# Altium schematic symbol library kmilo17pet-Maxim_Sensors.SchLib: 1172 symbols (part 47 of 61)
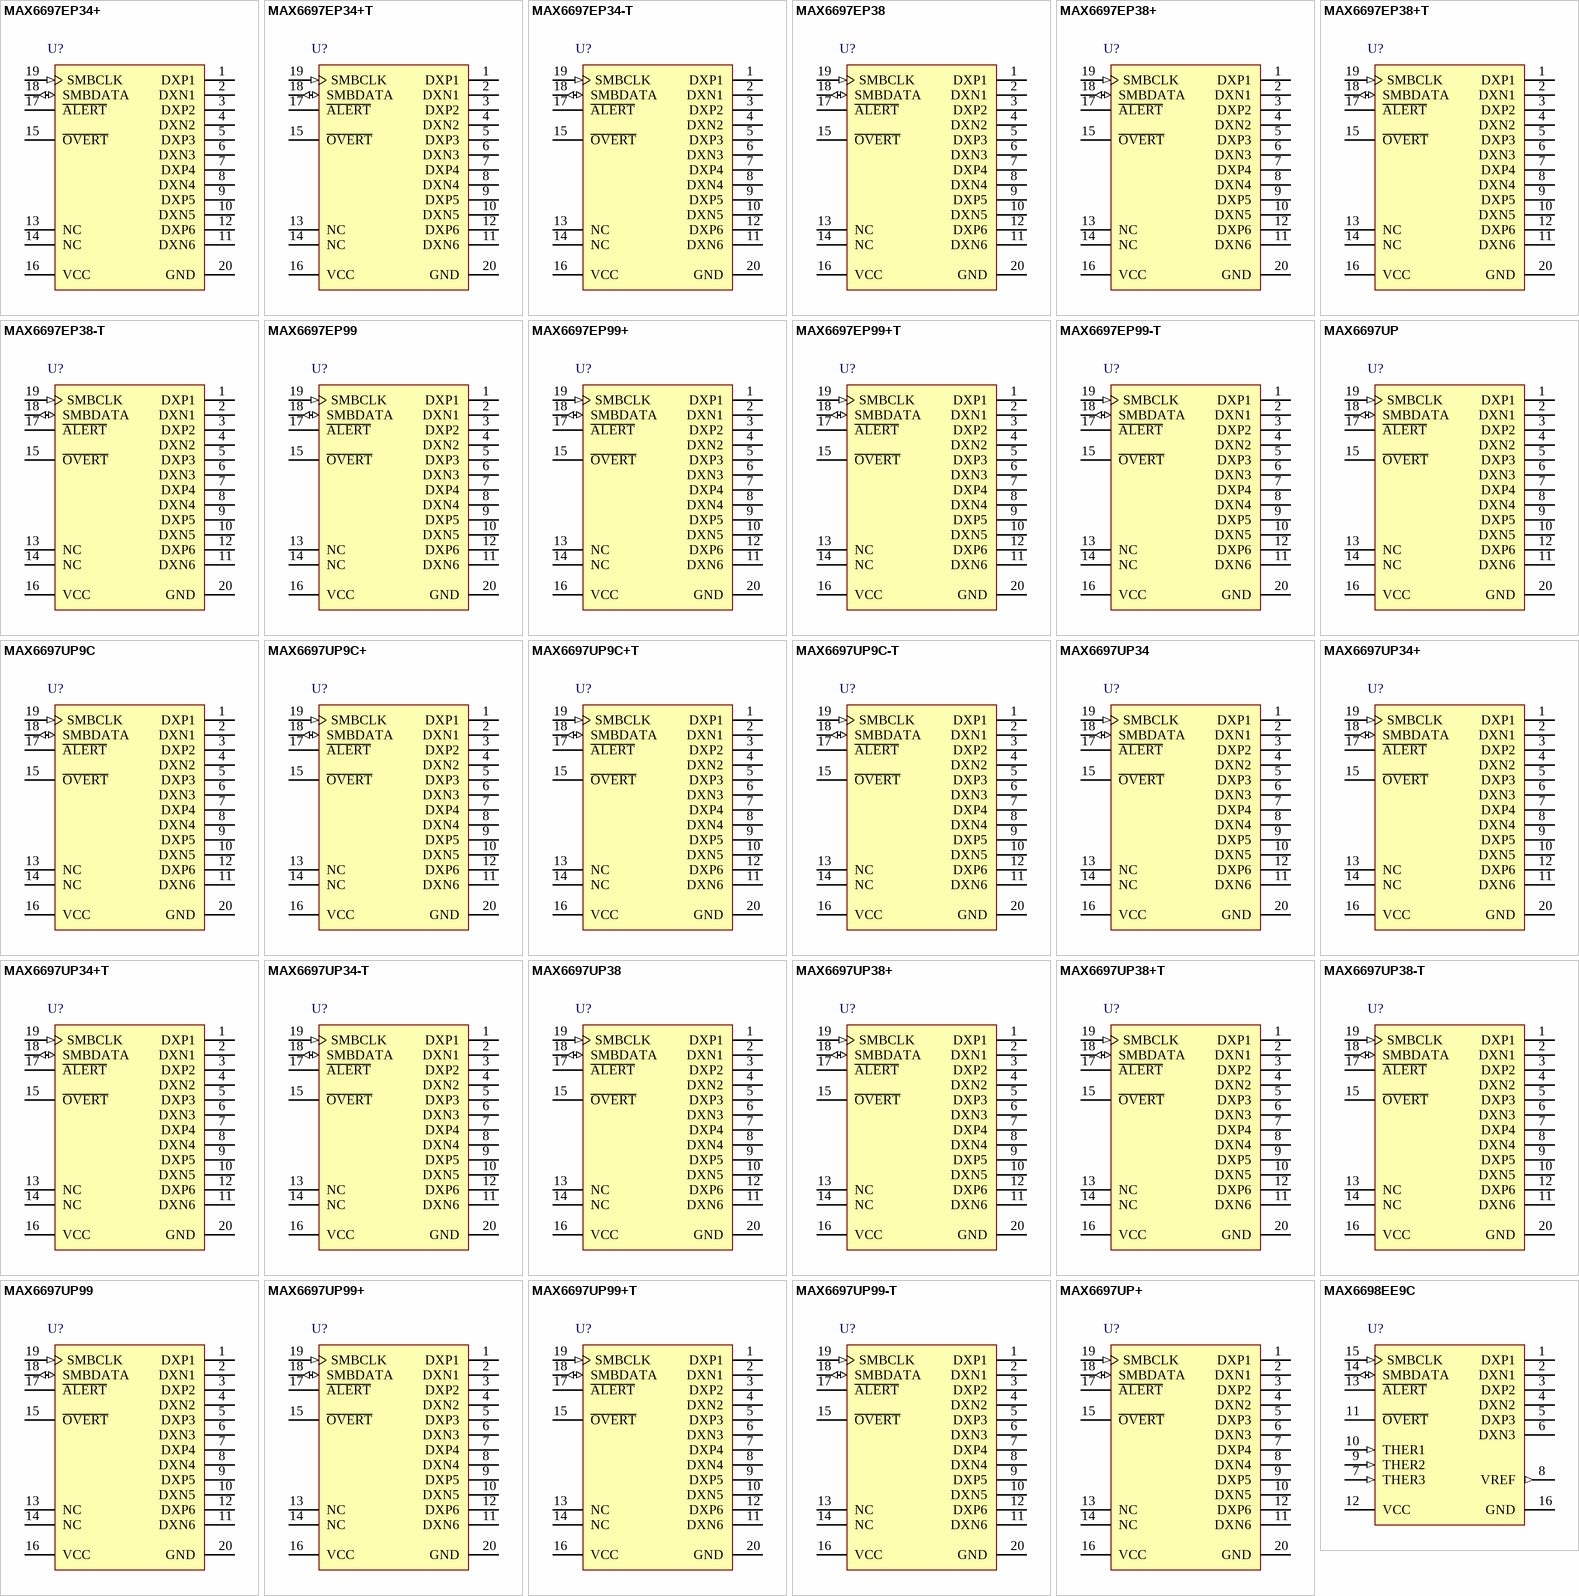
[diagram p79: symbols MAX6697EP34+ to MAX6698EE9C]

## MAX6697EP34+
designator U?
Seven-Channel Temperature Monitor, 11 Bits Temperature Resolution, -40 to 125 degC, 20-Pin SOP (E20+1), Pb-Free; Generic Part Number: MAX6697; PartNumber: MAX6697EP34+; Alarm Output: Alert, Overt; Functions: Dual Temperature Alarms, Multi-Channel Temperature Monitor ,Remote & Local Sensor; Interface: 2-Wire/I2C/SMBus; Parasite Pwr.: No; DatasheetVersion: Rev. 3; PackageVersion: Rev. K, 04/2012; PackageReference: E20+1; PackageDescription: 20-Pin Quarter Small-Outline Package, Body 3.9 x 8.65 mm, Pitch 0.635 mm; Supplier 1: Digi-Key; Supplier Part Number 1: MAX6697EP34+-ND; Supplier 2: Mouser; Supplier Part Number 2: 700-MAX6697EP34; Mounting Technology: Surface Mount; Code_JEDEC: MO-137; ComponentLink1Description: Manufacturer URL; ComponentLink1URL: http://www.maximintegrated.com/; ComponentLink2Description: Datasheet; ComponentLink2URL: http://datasheets.maximintegrated.com/en/ds/MAX6697.pdf; ComponentLink3Description: Package Specification; ComponentLink3URL: http://pdfserv.maximintegrated.com/package_dwgs/21-0055.PDF
footprint MAXM-E20+1_N (SOP, 20-Leads, Body 8.65x3.9mm, Pitch 0.635mm, IPC Medium Density)
footprint MAXM-E20+1_L (SOP, 20-Leads, Body 8.65x3.9mm, Pitch 0.635mm, IPC High Density)
footprint MAXM-E20+1_M (SOP, 20-Leads, Body 8.65x3.9mm, Pitch 0.635mm, IPC Low Density)
pins: 1 DXP1 "Combined Current Source and A/D Positive Input for Channel 1 Remote Diode. Connect to the anode of a remote-diode-connected temperature-sensing transistor. Leave floating or connect to VCC if no remote diode is used. Place a (See Datasheet)", 2 DXN1 "Cathode Input for Channel 1 Remote Diode. Connect the cathode of the channel 1 remote-diodeconnected transistor to DXN1.", 3 DXP2 "Combined Current Source and A/D Positive Input for Channel 2 Remote Diode. Connect to the anode of a remote-diode-connected temperature-sensing transistor. Leave floating or connect to VCC if no remote diode is used. Place a (See Datasheet)", 4 DXN2 "Cathode Input for Channel 2 Remote Diode. Connect the cathode of the channel 2 remote-diodeconnected transistor to DXN2.", 5 DXP3 "Combined Current Source and A/D Positive Input for Channel 3 Remote Diode. Connect to the anode of a remote-diode-connected temperature-sensing transistor. Leave floating or connect to VCC if no remote diode is used. Place a (See Datasheet)", 6 DXN3 "Cathode Input for Channel 3 Remote Diode. Connect the cathode of the channel 3 remote-diodeconnected transistor to DXN3.", 7 DXP4 "Combined Current Source and A/D Positive Input for Channel 4 Remote Diode. Connect to the anode of a remote-diode-connected temperature-sensing transistor. Leave floating or connect to VCC if no remote diode is used. Place a (See Datasheet)", 8 DXN4 "Cathode Input for Channel 4 Remote Diode. Connect the cathode of the channel 4 remote-diodeconnected transistor to DXN4.", 9 DXP5 "Combined Current Source and A/D Positive Input for Channel 5 Remote Diode. Connect to the anode of a remote-diode-connected temperature-sensing transistor. Leave floating or connect to VCC if no remote diode is used. Place a (See Datasheet)", 10 DXN5 "Cathode Input for Channel 5 Remote Diode. Connect the cathode of the channel 5 remote-diodeconnected transistor to DXN5.", 11 DXN6 "Cathode Input for Channel 6 Remote Diode. Connect the cathode of the channel 6 remote-diodeconnected transistor to DXN6.", 12 DXP6 "Combined Current Source and A/D Positive Input for Channel 6 Remote Diode. Connect to the anode of a remote-diode-connected temperature-sensing transistor. Leave floating or connect to VCC if no remote diode is used. Place a (See Datasheet)", 13 NC "No Connect. Must be connected to ground.", 14 NC "No Connect. Must be connected to ground.", 15 ~{OVERT} (oc) "Overtemperature Active-Low, Open-Drain Output. O\V\E\R\T\ asserts low when the temperature of channels 1, 4, 5, and 6 exceeds the programmed threshold limit.", 16 VCC (power) "Supply Voltage Input. Bypass to GND with a 0.1µF capacitor.", 17 ~{ALERT} (oc) "SMBus Alert (Interrupt), Active-Low, Open-Drain Output. A\L\E\R\T\ asserts low when the temperature of any channel exceeds the programmed A\L\E\R\T\ threshold.", 18 SMBDATA (io) "SMBus Serial-Data Input/Output. Connect to a pullup resistor.", 19 SMBCLK (in) "SMBus Serial-Clock Input. Connect to a pullup resistor.", 20 GND (power) "Ground"

## MAX6697EP34+T
designator U?
Seven-Channel Temperature Monitor, 11 Bits Temperature Resolution, -40 to 125 degC, 20-Pin SOP (E20+1), Pb-Free, Tape and Reel; Generic Part Number: MAX6697; PartNumber: MAX6697EP34+T; Alarm Output: Alert, Overt; Functions: Dual Temperature Alarms, Multi-Channel Temperature Monitor ,Remote & Local Sensor; Interface: 2-Wire/I2C/SMBus; Parasite Pwr.: No; DatasheetVersion: Rev. 3; PackageVersion: Rev. K, 04/2012; PackageReference: E20+1; PackageDescription: 20-Pin Quarter Small-Outline Package, Body 3.9 x 8.65 mm, Pitch 0.635 mm; Supplier 1: Digi-Key; Supplier Part Number 1: MAX6697EP34+T-ND; Supplier 2: Mouser; Supplier Part Number 2: 700-MAX6697EP34T; Packing: Tape and Reel; Mounting Technology: Surface Mount; Code_JEDEC: MO-137; ComponentLink1Description: Manufacturer URL; ComponentLink1URL: http://www.maximintegrated.com/; ComponentLink2Description: Datasheet; ComponentLink2URL: http://datasheets.maximintegrated.com/en/ds/MAX6697.pdf; ComponentLink3Description: Package Specification; ComponentLink3URL: http://pdfserv.maximintegrated.com/package_dwgs/21-0055.PDF
footprint MAXM-E20+1_N (SOP, 20-Leads, Body 8.65x3.9mm, Pitch 0.635mm, IPC Medium Density)
footprint MAXM-E20+1_L (SOP, 20-Leads, Body 8.65x3.9mm, Pitch 0.635mm, IPC High Density)
footprint MAXM-E20+1_M (SOP, 20-Leads, Body 8.65x3.9mm, Pitch 0.635mm, IPC Low Density)
pins: 1 DXP1 "Combined Current Source and A/D Positive Input for Channel 1 Remote Diode. Connect to the anode of a remote-diode-connected temperature-sensing transistor. Leave floating or connect to VCC if no remote diode is used. Place a (See Datasheet)", 2 DXN1 "Cathode Input for Channel 1 Remote Diode. Connect the cathode of the channel 1 remote-diodeconnected transistor to DXN1.", 3 DXP2 "Combined Current Source and A/D Positive Input for Channel 2 Remote Diode. Connect to the anode of a remote-diode-connected temperature-sensing transistor. Leave floating or connect to VCC if no remote diode is used. Place a (See Datasheet)", 4 DXN2 "Cathode Input for Channel 2 Remote Diode. Connect the cathode of the channel 2 remote-diodeconnected transistor to DXN2.", 5 DXP3 "Combined Current Source and A/D Positive Input for Channel 3 Remote Diode. Connect to the anode of a remote-diode-connected temperature-sensing transistor. Leave floating or connect to VCC if no remote diode is used. Place a (See Datasheet)", 6 DXN3 "Cathode Input for Channel 3 Remote Diode. Connect the cathode of the channel 3 remote-diodeconnected transistor to DXN3.", 7 DXP4 "Combined Current Source and A/D Positive Input for Channel 4 Remote Diode. Connect to the anode of a remote-diode-connected temperature-sensing transistor. Leave floating or connect to VCC if no remote diode is used. Place a (See Datasheet)", 8 DXN4 "Cathode Input for Channel 4 Remote Diode. Connect the cathode of the channel 4 remote-diodeconnected transistor to DXN4.", 9 DXP5 "Combined Current Source and A/D Positive Input for Channel 5 Remote Diode. Connect to the anode of a remote-diode-connected temperature-sensing transistor. Leave floating or connect to VCC if no remote diode is used. Place a (See Datasheet)", 10 DXN5 "Cathode Input for Channel 5 Remote Diode. Connect the cathode of the channel 5 remote-diodeconnected transistor to DXN5.", 11 DXN6 "Cathode Input for Channel 6 Remote Diode. Connect the cathode of the channel 6 remote-diodeconnected transistor to DXN6.", 12 DXP6 "Combined Current Source and A/D Positive Input for Channel 6 Remote Diode. Connect to the anode of a remote-diode-connected temperature-sensing transistor. Leave floating or connect to VCC if no remote diode is used. Place a (See Datasheet)", 13 NC "No Connect. Must be connected to ground.", 14 NC "No Connect. Must be connected to ground.", 15 ~{OVERT} (oc) "Overtemperature Active-Low, Open-Drain Output. O\V\E\R\T\ asserts low when the temperature of channels 1, 4, 5, and 6 exceeds the programmed threshold limit.", 16 VCC (power) "Supply Voltage Input. Bypass to GND with a 0.1µF capacitor.", 17 ~{ALERT} (oc) "SMBus Alert (Interrupt), Active-Low, Open-Drain Output. A\L\E\R\T\ asserts low when the temperature of any channel exceeds the programmed A\L\E\R\T\ threshold.", 18 SMBDATA (io) "SMBus Serial-Data Input/Output. Connect to a pullup resistor.", 19 SMBCLK (in) "SMBus Serial-Clock Input. Connect to a pullup resistor.", 20 GND (power) "Ground"

## MAX6697EP34-T
designator U?
Seven-Channel Temperature Monitor, 11 Bits Temperature Resolution, -40 to 125 degC, 20-Pin SOP (E20-1), Tape and Reel; Generic Part Number: MAX6697; PartNumber: MAX6697EP34-T; Alarm Output: Alert, Overt; Functions: Dual Temperature Alarms, Multi-Channel Temperature Monitor ,Remote & Local Sensor; Interface: 2-Wire/I2C/SMBus; Parasite Pwr.: No; DatasheetVersion: Rev. 3; PackageVersion: Rev. K, 04/2012; PackageReference: E20-1; PackageDescription: 20-Pin Quarter Small-Outline Package, Body 3.9 x 8.65 mm, Pitch 0.635 mm; Supplier 1: Mouser; Supplier Part Number 1: N/A; Packing: Tape and Reel; Mounting Technology: Surface Mount; Code_JEDEC: MO-137; ComponentLink1Description: Manufacturer URL; ComponentLink1URL: http://www.maximintegrated.com/; ComponentLink2Description: Datasheet; ComponentLink2URL: http://datasheets.maximintegrated.com/en/ds/MAX6697.pdf; ComponentLink3Description: Package Specification; ComponentLink3URL: http://pdfserv.maximintegrated.com/package_dwgs/21-0055.PDF
footprint MAXM-E20-1_N (SOP, 20-Leads, Body 8.65x3.9mm, Pitch 0.635mm, IPC Medium Density)
footprint MAXM-E20-1_L (SOP, 20-Leads, Body 8.65x3.9mm, Pitch 0.635mm, IPC High Density)
footprint MAXM-E20-1_M (SOP, 20-Leads, Body 8.65x3.9mm, Pitch 0.635mm, IPC Low Density)
pins: 1 DXP1 "Combined Current Source and A/D Positive Input for Channel 1 Remote Diode. Connect to the anode of a remote-diode-connected temperature-sensing transistor. Leave floating or connect to VCC if no remote diode is used. Place a (See Datasheet)", 2 DXN1 "Cathode Input for Channel 1 Remote Diode. Connect the cathode of the channel 1 remote-diodeconnected transistor to DXN1.", 3 DXP2 "Combined Current Source and A/D Positive Input for Channel 2 Remote Diode. Connect to the anode of a remote-diode-connected temperature-sensing transistor. Leave floating or connect to VCC if no remote diode is used. Place a (See Datasheet)", 4 DXN2 "Cathode Input for Channel 2 Remote Diode. Connect the cathode of the channel 2 remote-diodeconnected transistor to DXN2.", 5 DXP3 "Combined Current Source and A/D Positive Input for Channel 3 Remote Diode. Connect to the anode of a remote-diode-connected temperature-sensing transistor. Leave floating or connect to VCC if no remote diode is used. Place a (See Datasheet)", 6 DXN3 "Cathode Input for Channel 3 Remote Diode. Connect the cathode of the channel 3 remote-diodeconnected transistor to DXN3.", 7 DXP4 "Combined Current Source and A/D Positive Input for Channel 4 Remote Diode. Connect to the anode of a remote-diode-connected temperature-sensing transistor. Leave floating or connect to VCC if no remote diode is used. Place a (See Datasheet)", 8 DXN4 "Cathode Input for Channel 4 Remote Diode. Connect the cathode of the channel 4 remote-diodeconnected transistor to DXN4.", 9 DXP5 "Combined Current Source and A/D Positive Input for Channel 5 Remote Diode. Connect to the anode of a remote-diode-connected temperature-sensing transistor. Leave floating or connect to VCC if no remote diode is used. Place a (See Datasheet)", 10 DXN5 "Cathode Input for Channel 5 Remote Diode. Connect the cathode of the channel 5 remote-diodeconnected transistor to DXN5.", 11 DXN6 "Cathode Input for Channel 6 Remote Diode. Connect the cathode of the channel 6 remote-diodeconnected transistor to DXN6.", 12 DXP6 "Combined Current Source and A/D Positive Input for Channel 6 Remote Diode. Connect to the anode of a remote-diode-connected temperature-sensing transistor. Leave floating or connect to VCC if no remote diode is used. Place a (See Datasheet)", 13 NC "No Connect. Must be connected to ground.", 14 NC "No Connect. Must be connected to ground.", 15 ~{OVERT} (oc) "Overtemperature Active-Low, Open-Drain Output. O\V\E\R\T\ asserts low when the temperature of channels 1, 4, 5, and 6 exceeds the programmed threshold limit.", 16 VCC (power) "Supply Voltage Input. Bypass to GND with a 0.1µF capacitor.", 17 ~{ALERT} (oc) "SMBus Alert (Interrupt), Active-Low, Open-Drain Output. A\L\E\R\T\ asserts low when the temperature of any channel exceeds the programmed A\L\E\R\T\ threshold.", 18 SMBDATA (io) "SMBus Serial-Data Input/Output. Connect to a pullup resistor.", 19 SMBCLK (in) "SMBus Serial-Clock Input. Connect to a pullup resistor.", 20 GND (power) "Ground"

## MAX6697EP38
designator U?
Seven-Channel Temperature Monitor, 11 Bits Temperature Resolution, -40 to 125 degC, 20-Pin SOP (E20-1); Generic Part Number: MAX6697; PartNumber: MAX6697EP38; Alarm Output: Alert, Overt; Functions: Dual Temperature Alarms, Multi-Channel Temperature Monitor ,Remote & Local Sensor; Interface: 2-Wire/I2C/SMBus; Parasite Pwr.: No; DatasheetVersion: Rev. 3; PackageVersion: Rev. K, 04/2012; PackageReference: E20-1; PackageDescription: 20-Pin Quarter Small-Outline Package, Body 3.9 x 8.65 mm, Pitch 0.635 mm; Supplier 1: Mouser; Supplier Part Number 1: N/A; Mounting Technology: Surface Mount; Code_JEDEC: MO-137; ComponentLink1Description: Manufacturer URL; ComponentLink1URL: http://www.maximintegrated.com/; ComponentLink2Description: Datasheet; ComponentLink2URL: http://datasheets.maximintegrated.com/en/ds/MAX6697.pdf; ComponentLink3Description: Package Specification; ComponentLink3URL: http://pdfserv.maximintegrated.com/package_dwgs/21-0055.PDF
footprint MAXM-E20-1_N (SOP, 20-Leads, Body 8.65x3.9mm, Pitch 0.635mm, IPC Medium Density)
footprint MAXM-E20-1_L (SOP, 20-Leads, Body 8.65x3.9mm, Pitch 0.635mm, IPC High Density)
footprint MAXM-E20-1_M (SOP, 20-Leads, Body 8.65x3.9mm, Pitch 0.635mm, IPC Low Density)
pins: 1 DXP1 "Combined Current Source and A/D Positive Input for Channel 1 Remote Diode. Connect to the anode of a remote-diode-connected temperature-sensing transistor. Leave floating or connect to VCC if no remote diode is used. Place a (See Datasheet)", 2 DXN1 "Cathode Input for Channel 1 Remote Diode. Connect the cathode of the channel 1 remote-diodeconnected transistor to DXN1.", 3 DXP2 "Combined Current Source and A/D Positive Input for Channel 2 Remote Diode. Connect to the anode of a remote-diode-connected temperature-sensing transistor. Leave floating or connect to VCC if no remote diode is used. Place a (See Datasheet)", 4 DXN2 "Cathode Input for Channel 2 Remote Diode. Connect the cathode of the channel 2 remote-diodeconnected transistor to DXN2.", 5 DXP3 "Combined Current Source and A/D Positive Input for Channel 3 Remote Diode. Connect to the anode of a remote-diode-connected temperature-sensing transistor. Leave floating or connect to VCC if no remote diode is used. Place a (See Datasheet)", 6 DXN3 "Cathode Input for Channel 3 Remote Diode. Connect the cathode of the channel 3 remote-diodeconnected transistor to DXN3.", 7 DXP4 "Combined Current Source and A/D Positive Input for Channel 4 Remote Diode. Connect to the anode of a remote-diode-connected temperature-sensing transistor. Leave floating or connect to VCC if no remote diode is used. Place a (See Datasheet)", 8 DXN4 "Cathode Input for Channel 4 Remote Diode. Connect the cathode of the channel 4 remote-diodeconnected transistor to DXN4.", 9 DXP5 "Combined Current Source and A/D Positive Input for Channel 5 Remote Diode. Connect to the anode of a remote-diode-connected temperature-sensing transistor. Leave floating or connect to VCC if no remote diode is used. Place a (See Datasheet)", 10 DXN5 "Cathode Input for Channel 5 Remote Diode. Connect the cathode of the channel 5 remote-diodeconnected transistor to DXN5.", 11 DXN6 "Cathode Input for Channel 6 Remote Diode. Connect the cathode of the channel 6 remote-diodeconnected transistor to DXN6.", 12 DXP6 "Combined Current Source and A/D Positive Input for Channel 6 Remote Diode. Connect to the anode of a remote-diode-connected temperature-sensing transistor. Leave floating or connect to VCC if no remote diode is used. Place a (See Datasheet)", 13 NC "No Connect. Must be connected to ground.", 14 NC "No Connect. Must be connected to ground.", 15 ~{OVERT} (oc) "Overtemperature Active-Low, Open-Drain Output. O\V\E\R\T\ asserts low when the temperature of channels 1, 4, 5, and 6 exceeds the programmed threshold limit.", 16 VCC (power) "Supply Voltage Input. Bypass to GND with a 0.1µF capacitor.", 17 ~{ALERT} (oc) "SMBus Alert (Interrupt), Active-Low, Open-Drain Output. A\L\E\R\T\ asserts low when the temperature of any channel exceeds the programmed A\L\E\R\T\ threshold.", 18 SMBDATA (io) "SMBus Serial-Data Input/Output. Connect to a pullup resistor.", 19 SMBCLK (in) "SMBus Serial-Clock Input. Connect to a pullup resistor.", 20 GND (power) "Ground"

## MAX6697EP38+
designator U?
Seven-Channel Temperature Monitor, 11 Bits Temperature Resolution, -40 to 125 degC, 20-Pin SOP (E20+1), Pb-Free; Generic Part Number: MAX6697; PartNumber: MAX6697EP38+; Alarm Output: Alert, Overt; Functions: Dual Temperature Alarms, Multi-Channel Temperature Monitor ,Remote & Local Sensor; Interface: 2-Wire/I2C/SMBus; Parasite Pwr.: No; DatasheetVersion: Rev. 3; PackageVersion: Rev. K, 04/2012; PackageReference: E20+1; PackageDescription: 20-Pin Quarter Small-Outline Package, Body 3.9 x 8.65 mm, Pitch 0.635 mm; Supplier 1: Digi-Key; Supplier Part Number 1: MAX6697EP38+-ND; Supplier 2: Mouser; Supplier Part Number 2: 700-MAX6697EP38; Mounting Technology: Surface Mount; Code_JEDEC: MO-137; ComponentLink1Description: Manufacturer URL; ComponentLink1URL: http://www.maximintegrated.com/; ComponentLink2Description: Datasheet; ComponentLink2URL: http://datasheets.maximintegrated.com/en/ds/MAX6697.pdf; ComponentLink3Description: Package Specification; ComponentLink3URL: http://pdfserv.maximintegrated.com/package_dwgs/21-0055.PDF
footprint MAXM-E20+1_N (SOP, 20-Leads, Body 8.65x3.9mm, Pitch 0.635mm, IPC Medium Density)
footprint MAXM-E20+1_L (SOP, 20-Leads, Body 8.65x3.9mm, Pitch 0.635mm, IPC High Density)
footprint MAXM-E20+1_M (SOP, 20-Leads, Body 8.65x3.9mm, Pitch 0.635mm, IPC Low Density)
pins: 1 DXP1 "Combined Current Source and A/D Positive Input for Channel 1 Remote Diode. Connect to the anode of a remote-diode-connected temperature-sensing transistor. Leave floating or connect to VCC if no remote diode is used. Place a (See Datasheet)", 2 DXN1 "Cathode Input for Channel 1 Remote Diode. Connect the cathode of the channel 1 remote-diodeconnected transistor to DXN1.", 3 DXP2 "Combined Current Source and A/D Positive Input for Channel 2 Remote Diode. Connect to the anode of a remote-diode-connected temperature-sensing transistor. Leave floating or connect to VCC if no remote diode is used. Place a (See Datasheet)", 4 DXN2 "Cathode Input for Channel 2 Remote Diode. Connect the cathode of the channel 2 remote-diodeconnected transistor to DXN2.", 5 DXP3 "Combined Current Source and A/D Positive Input for Channel 3 Remote Diode. Connect to the anode of a remote-diode-connected temperature-sensing transistor. Leave floating or connect to VCC if no remote diode is used. Place a (See Datasheet)", 6 DXN3 "Cathode Input for Channel 3 Remote Diode. Connect the cathode of the channel 3 remote-diodeconnected transistor to DXN3.", 7 DXP4 "Combined Current Source and A/D Positive Input for Channel 4 Remote Diode. Connect to the anode of a remote-diode-connected temperature-sensing transistor. Leave floating or connect to VCC if no remote diode is used. Place a (See Datasheet)", 8 DXN4 "Cathode Input for Channel 4 Remote Diode. Connect the cathode of the channel 4 remote-diodeconnected transistor to DXN4.", 9 DXP5 "Combined Current Source and A/D Positive Input for Channel 5 Remote Diode. Connect to the anode of a remote-diode-connected temperature-sensing transistor. Leave floating or connect to VCC if no remote diode is used. Place a (See Datasheet)", 10 DXN5 "Cathode Input for Channel 5 Remote Diode. Connect the cathode of the channel 5 remote-diodeconnected transistor to DXN5.", 11 DXN6 "Cathode Input for Channel 6 Remote Diode. Connect the cathode of the channel 6 remote-diodeconnected transistor to DXN6.", 12 DXP6 "Combined Current Source and A/D Positive Input for Channel 6 Remote Diode. Connect to the anode of a remote-diode-connected temperature-sensing transistor. Leave floating or connect to VCC if no remote diode is used. Place a (See Datasheet)", 13 NC "No Connect. Must be connected to ground.", 14 NC "No Connect. Must be connected to ground.", 15 ~{OVERT} (oc) "Overtemperature Active-Low, Open-Drain Output. O\V\E\R\T\ asserts low when the temperature of channels 1, 4, 5, and 6 exceeds the programmed threshold limit.", 16 VCC (power) "Supply Voltage Input. Bypass to GND with a 0.1µF capacitor.", 17 ~{ALERT} (oc) "SMBus Alert (Interrupt), Active-Low, Open-Drain Output. A\L\E\R\T\ asserts low when the temperature of any channel exceeds the programmed A\L\E\R\T\ threshold.", 18 SMBDATA (io) "SMBus Serial-Data Input/Output. Connect to a pullup resistor.", 19 SMBCLK (in) "SMBus Serial-Clock Input. Connect to a pullup resistor.", 20 GND (power) "Ground"

## MAX6697EP38+T
designator U?
Seven-Channel Temperature Monitor, 11 Bits Temperature Resolution, -40 to 125 degC, 20-Pin SOP (E20+1), Pb-Free, Tape and Reel; Generic Part Number: MAX6697; PartNumber: MAX6697EP38+T; Alarm Output: Alert, Overt; Functions: Dual Temperature Alarms, Multi-Channel Temperature Monitor ,Remote & Local Sensor; Interface: 2-Wire/I2C/SMBus; Parasite Pwr.: No; DatasheetVersion: Rev. 3; PackageVersion: Rev. K, 04/2012; PackageReference: E20+1; PackageDescription: 20-Pin Quarter Small-Outline Package, Body 3.9 x 8.65 mm, Pitch 0.635 mm; Supplier 1: Digi-Key; Supplier Part Number 1: MAX6697EP38+T-ND; Supplier 2: Mouser; Supplier Part Number 2: 700-MAX6697EP38T; Packing: Tape and Reel; Mounting Technology: Surface Mount; Code_JEDEC: MO-137; ComponentLink1Description: Manufacturer URL; ComponentLink1URL: http://www.maximintegrated.com/; ComponentLink2Description: Datasheet; ComponentLink2URL: http://datasheets.maximintegrated.com/en/ds/MAX6697.pdf; ComponentLink3Description: Package Specification; ComponentLink3URL: http://pdfserv.maximintegrated.com/package_dwgs/21-0055.PDF
footprint MAXM-E20+1_N (SOP, 20-Leads, Body 8.65x3.9mm, Pitch 0.635mm, IPC Medium Density)
footprint MAXM-E20+1_L (SOP, 20-Leads, Body 8.65x3.9mm, Pitch 0.635mm, IPC High Density)
footprint MAXM-E20+1_M (SOP, 20-Leads, Body 8.65x3.9mm, Pitch 0.635mm, IPC Low Density)
pins: 1 DXP1 "Combined Current Source and A/D Positive Input for Channel 1 Remote Diode. Connect to the anode of a remote-diode-connected temperature-sensing transistor. Leave floating or connect to VCC if no remote diode is used. Place a (See Datasheet)", 2 DXN1 "Cathode Input for Channel 1 Remote Diode. Connect the cathode of the channel 1 remote-diodeconnected transistor to DXN1.", 3 DXP2 "Combined Current Source and A/D Positive Input for Channel 2 Remote Diode. Connect to the anode of a remote-diode-connected temperature-sensing transistor. Leave floating or connect to VCC if no remote diode is used. Place a (See Datasheet)", 4 DXN2 "Cathode Input for Channel 2 Remote Diode. Connect the cathode of the channel 2 remote-diodeconnected transistor to DXN2.", 5 DXP3 "Combined Current Source and A/D Positive Input for Channel 3 Remote Diode. Connect to the anode of a remote-diode-connected temperature-sensing transistor. Leave floating or connect to VCC if no remote diode is used. Place a (See Datasheet)", 6 DXN3 "Cathode Input for Channel 3 Remote Diode. Connect the cathode of the channel 3 remote-diodeconnected transistor to DXN3.", 7 DXP4 "Combined Current Source and A/D Positive Input for Channel 4 Remote Diode. Connect to the anode of a remote-diode-connected temperature-sensing transistor. Leave floating or connect to VCC if no remote diode is used. Place a (See Datasheet)", 8 DXN4 "Cathode Input for Channel 4 Remote Diode. Connect the cathode of the channel 4 remote-diodeconnected transistor to DXN4.", 9 DXP5 "Combined Current Source and A/D Positive Input for Channel 5 Remote Diode. Connect to the anode of a remote-diode-connected temperature-sensing transistor. Leave floating or connect to VCC if no remote diode is used. Place a (See Datasheet)", 10 DXN5 "Cathode Input for Channel 5 Remote Diode. Connect the cathode of the channel 5 remote-diodeconnected transistor to DXN5.", 11 DXN6 "Cathode Input for Channel 6 Remote Diode. Connect the cathode of the channel 6 remote-diodeconnected transistor to DXN6.", 12 DXP6 "Combined Current Source and A/D Positive Input for Channel 6 Remote Diode. Connect to the anode of a remote-diode-connected temperature-sensing transistor. Leave floating or connect to VCC if no remote diode is used. Place a (See Datasheet)", 13 NC "No Connect. Must be connected to ground.", 14 NC "No Connect. Must be connected to ground.", 15 ~{OVERT} (oc) "Overtemperature Active-Low, Open-Drain Output. O\V\E\R\T\ asserts low when the temperature of channels 1, 4, 5, and 6 exceeds the programmed threshold limit.", 16 VCC (power) "Supply Voltage Input. Bypass to GND with a 0.1µF capacitor.", 17 ~{ALERT} (oc) "SMBus Alert (Interrupt), Active-Low, Open-Drain Output. A\L\E\R\T\ asserts low when the temperature of any channel exceeds the programmed A\L\E\R\T\ threshold.", 18 SMBDATA (io) "SMBus Serial-Data Input/Output. Connect to a pullup resistor.", 19 SMBCLK (in) "SMBus Serial-Clock Input. Connect to a pullup resistor.", 20 GND (power) "Ground"

## MAX6697EP38-T
designator U?
Seven-Channel Temperature Monitor, 11 Bits Temperature Resolution, -40 to 125 degC, 20-Pin SOP (E20-1), Tape and Reel; Generic Part Number: MAX6697; PartNumber: MAX6697EP38-T; Alarm Output: Alert, Overt; Functions: Dual Temperature Alarms, Multi-Channel Temperature Monitor ,Remote & Local Sensor; Interface: 2-Wire/I2C/SMBus; Parasite Pwr.: No; DatasheetVersion: Rev. 3; PackageVersion: Rev. K, 04/2012; PackageReference: E20-1; PackageDescription: 20-Pin Quarter Small-Outline Package, Body 3.9 x 8.65 mm, Pitch 0.635 mm; Supplier 1: Mouser; Supplier Part Number 1: N/A; Packing: Tape and Reel; Mounting Technology: Surface Mount; Code_JEDEC: MO-137; ComponentLink1Description: Manufacturer URL; ComponentLink1URL: http://www.maximintegrated.com/; ComponentLink2Description: Datasheet; ComponentLink2URL: http://datasheets.maximintegrated.com/en/ds/MAX6697.pdf; ComponentLink3Description: Package Specification; ComponentLink3URL: http://pdfserv.maximintegrated.com/package_dwgs/21-0055.PDF
footprint MAXM-E20-1_N (SOP, 20-Leads, Body 8.65x3.9mm, Pitch 0.635mm, IPC Medium Density)
footprint MAXM-E20-1_L (SOP, 20-Leads, Body 8.65x3.9mm, Pitch 0.635mm, IPC High Density)
footprint MAXM-E20-1_M (SOP, 20-Leads, Body 8.65x3.9mm, Pitch 0.635mm, IPC Low Density)
pins: 1 DXP1 "Combined Current Source and A/D Positive Input for Channel 1 Remote Diode. Connect to the anode of a remote-diode-connected temperature-sensing transistor. Leave floating or connect to VCC if no remote diode is used. Place a (See Datasheet)", 2 DXN1 "Cathode Input for Channel 1 Remote Diode. Connect the cathode of the channel 1 remote-diodeconnected transistor to DXN1.", 3 DXP2 "Combined Current Source and A/D Positive Input for Channel 2 Remote Diode. Connect to the anode of a remote-diode-connected temperature-sensing transistor. Leave floating or connect to VCC if no remote diode is used. Place a (See Datasheet)", 4 DXN2 "Cathode Input for Channel 2 Remote Diode. Connect the cathode of the channel 2 remote-diodeconnected transistor to DXN2.", 5 DXP3 "Combined Current Source and A/D Positive Input for Channel 3 Remote Diode. Connect to the anode of a remote-diode-connected temperature-sensing transistor. Leave floating or connect to VCC if no remote diode is used. Place a (See Datasheet)", 6 DXN3 "Cathode Input for Channel 3 Remote Diode. Connect the cathode of the channel 3 remote-diodeconnected transistor to DXN3.", 7 DXP4 "Combined Current Source and A/D Positive Input for Channel 4 Remote Diode. Connect to the anode of a remote-diode-connected temperature-sensing transistor. Leave floating or connect to VCC if no remote diode is used. Place a (See Datasheet)", 8 DXN4 "Cathode Input for Channel 4 Remote Diode. Connect the cathode of the channel 4 remote-diodeconnected transistor to DXN4.", 9 DXP5 "Combined Current Source and A/D Positive Input for Channel 5 Remote Diode. Connect to the anode of a remote-diode-connected temperature-sensing transistor. Leave floating or connect to VCC if no remote diode is used. Place a (See Datasheet)", 10 DXN5 "Cathode Input for Channel 5 Remote Diode. Connect the cathode of the channel 5 remote-diodeconnected transistor to DXN5.", 11 DXN6 "Cathode Input for Channel 6 Remote Diode. Connect the cathode of the channel 6 remote-diodeconnected transistor to DXN6.", 12 DXP6 "Combined Current Source and A/D Positive Input for Channel 6 Remote Diode. Connect to the anode of a remote-diode-connected temperature-sensing transistor. Leave floating or connect to VCC if no remote diode is used. Place a (See Datasheet)", 13 NC "No Connect. Must be connected to ground.", 14 NC "No Connect. Must be connected to ground.", 15 ~{OVERT} (oc) "Overtemperature Active-Low, Open-Drain Output. O\V\E\R\T\ asserts low when the temperature of channels 1, 4, 5, and 6 exceeds the programmed threshold limit.", 16 VCC (power) "Supply Voltage Input. Bypass to GND with a 0.1µF capacitor.", 17 ~{ALERT} (oc) "SMBus Alert (Interrupt), Active-Low, Open-Drain Output. A\L\E\R\T\ asserts low when the temperature of any channel exceeds the programmed A\L\E\R\T\ threshold.", 18 SMBDATA (io) "SMBus Serial-Data Input/Output. Connect to a pullup resistor.", 19 SMBCLK (in) "SMBus Serial-Clock Input. Connect to a pullup resistor.", 20 GND (power) "Ground"

## MAX6697EP99
designator U?
Seven-Channel Temperature Monitor, 11 Bits Temperature Resolution, -40 to 125 degC, 20-Pin SOP (E20-1); Generic Part Number: MAX6697; PartNumber: MAX6697EP99; Alarm Output: Alert, Overt; Functions: Dual Temperature Alarms, Multi-Channel Temperature Monitor ,Remote & Local Sensor; Interface: 2-Wire/I2C/SMBus; Parasite Pwr.: No; DatasheetVersion: Rev. 3; PackageVersion: Rev. K, 04/2012; PackageReference: E20-1; PackageDescription: 20-Pin Quarter Small-Outline Package, Body 3.9 x 8.65 mm, Pitch 0.635 mm; Supplier 1: Mouser; Supplier Part Number 1: N/A; Mounting Technology: Surface Mount; Code_JEDEC: MO-137; ComponentLink1Description: Manufacturer URL; ComponentLink1URL: http://www.maximintegrated.com/; ComponentLink2Description: Datasheet; ComponentLink2URL: http://datasheets.maximintegrated.com/en/ds/MAX6697.pdf; ComponentLink3Description: Package Specification; ComponentLink3URL: http://pdfserv.maximintegrated.com/package_dwgs/21-0055.PDF
footprint MAXM-E20-1_N (SOP, 20-Leads, Body 8.65x3.9mm, Pitch 0.635mm, IPC Medium Density)
footprint MAXM-E20-1_L (SOP, 20-Leads, Body 8.65x3.9mm, Pitch 0.635mm, IPC High Density)
footprint MAXM-E20-1_M (SOP, 20-Leads, Body 8.65x3.9mm, Pitch 0.635mm, IPC Low Density)
pins: 1 DXP1 "Combined Current Source and A/D Positive Input for Channel 1 Remote Diode. Connect to the anode of a remote-diode-connected temperature-sensing transistor. Leave floating or connect to VCC if no remote diode is used. Place a (See Datasheet)", 2 DXN1 "Cathode Input for Channel 1 Remote Diode. Connect the cathode of the channel 1 remote-diodeconnected transistor to DXN1.", 3 DXP2 "Combined Current Source and A/D Positive Input for Channel 2 Remote Diode. Connect to the anode of a remote-diode-connected temperature-sensing transistor. Leave floating or connect to VCC if no remote diode is used. Place a (See Datasheet)", 4 DXN2 "Cathode Input for Channel 2 Remote Diode. Connect the cathode of the channel 2 remote-diodeconnected transistor to DXN2.", 5 DXP3 "Combined Current Source and A/D Positive Input for Channel 3 Remote Diode. Connect to the anode of a remote-diode-connected temperature-sensing transistor. Leave floating or connect to VCC if no remote diode is used. Place a (See Datasheet)", 6 DXN3 "Cathode Input for Channel 3 Remote Diode. Connect the cathode of the channel 3 remote-diodeconnected transistor to DXN3.", 7 DXP4 "Combined Current Source and A/D Positive Input for Channel 4 Remote Diode. Connect to the anode of a remote-diode-connected temperature-sensing transistor. Leave floating or connect to VCC if no remote diode is used. Place a (See Datasheet)", 8 DXN4 "Cathode Input for Channel 4 Remote Diode. Connect the cathode of the channel 4 remote-diodeconnected transistor to DXN4.", 9 DXP5 "Combined Current Source and A/D Positive Input for Channel 5 Remote Diode. Connect to the anode of a remote-diode-connected temperature-sensing transistor. Leave floating or connect to VCC if no remote diode is used. Place a (See Datasheet)", 10 DXN5 "Cathode Input for Channel 5 Remote Diode. Connect the cathode of the channel 5 remote-diodeconnected transistor to DXN5.", 11 DXN6 "Cathode Input for Channel 6 Remote Diode. Connect the cathode of the channel 6 remote-diodeconnected transistor to DXN6.", 12 DXP6 "Combined Current Source and A/D Positive Input for Channel 6 Remote Diode. Connect to the anode of a remote-diode-connected temperature-sensing transistor. Leave floating or connect to VCC if no remote diode is used. Place a (See Datasheet)", 13 NC "No Connect. Must be connected to ground.", 14 NC "No Connect. Must be connected to ground.", 15 ~{OVERT} (oc) "Overtemperature Active-Low, Open-Drain Output. O\V\E\R\T\ asserts low when the temperature of channels 1, 4, 5, and 6 exceeds the programmed threshold limit.", 16 VCC (power) "Supply Voltage Input. Bypass to GND with a 0.1µF capacitor.", 17 ~{ALERT} (oc) "SMBus Alert (Interrupt), Active-Low, Open-Drain Output. A\L\E\R\T\ asserts low when the temperature of any channel exceeds the programmed A\L\E\R\T\ threshold.", 18 SMBDATA (io) "SMBus Serial-Data Input/Output. Connect to a pullup resistor.", 19 SMBCLK (in) "SMBus Serial-Clock Input. Connect to a pullup resistor.", 20 GND (power) "Ground"

## MAX6697EP99+
designator U?
Seven-Channel Temperature Monitor, 11 Bits Temperature Resolution, -40 to 125 degC, 20-Pin SOP (E20+1), Pb-Free; Generic Part Number: MAX6697; PartNumber: MAX6697EP99+; Alarm Output: Alert, Overt; Functions: Dual Temperature Alarms, Multi-Channel Temperature Monitor ,Remote & Local Sensor; Interface: 2-Wire/I2C/SMBus; Parasite Pwr.: No; DatasheetVersion: Rev. 3; PackageVersion: Rev. K, 04/2012; PackageReference: E20+1; PackageDescription: 20-Pin Quarter Small-Outline Package, Body 3.9 x 8.65 mm, Pitch 0.635 mm; Supplier 1: Digi-Key; Supplier Part Number 1: MAX6697EP99+-ND; Supplier 2: Mouser; Supplier Part Number 2: 700-MAX6697EP99; Mounting Technology: Surface Mount; Code_JEDEC: MO-137; ComponentLink1Description: Manufacturer URL; ComponentLink1URL: http://www.maximintegrated.com/; ComponentLink2Description: Datasheet; ComponentLink2URL: http://datasheets.maximintegrated.com/en/ds/MAX6697.pdf; ComponentLink3Description: Package Specification; ComponentLink3URL: http://pdfserv.maximintegrated.com/package_dwgs/21-0055.PDF
footprint MAXM-E20+1_N (SOP, 20-Leads, Body 8.65x3.9mm, Pitch 0.635mm, IPC Medium Density)
footprint MAXM-E20+1_L (SOP, 20-Leads, Body 8.65x3.9mm, Pitch 0.635mm, IPC High Density)
footprint MAXM-E20+1_M (SOP, 20-Leads, Body 8.65x3.9mm, Pitch 0.635mm, IPC Low Density)
pins: 1 DXP1 "Combined Current Source and A/D Positive Input for Channel 1 Remote Diode. Connect to the anode of a remote-diode-connected temperature-sensing transistor. Leave floating or connect to VCC if no remote diode is used. Place a (See Datasheet)", 2 DXN1 "Cathode Input for Channel 1 Remote Diode. Connect the cathode of the channel 1 remote-diodeconnected transistor to DXN1.", 3 DXP2 "Combined Current Source and A/D Positive Input for Channel 2 Remote Diode. Connect to the anode of a remote-diode-connected temperature-sensing transistor. Leave floating or connect to VCC if no remote diode is used. Place a (See Datasheet)", 4 DXN2 "Cathode Input for Channel 2 Remote Diode. Connect the cathode of the channel 2 remote-diodeconnected transistor to DXN2.", 5 DXP3 "Combined Current Source and A/D Positive Input for Channel 3 Remote Diode. Connect to the anode of a remote-diode-connected temperature-sensing transistor. Leave floating or connect to VCC if no remote diode is used. Place a (See Datasheet)", 6 DXN3 "Cathode Input for Channel 3 Remote Diode. Connect the cathode of the channel 3 remote-diodeconnected transistor to DXN3.", 7 DXP4 "Combined Current Source and A/D Positive Input for Channel 4 Remote Diode. Connect to the anode of a remote-diode-connected temperature-sensing transistor. Leave floating or connect to VCC if no remote diode is used. Place a (See Datasheet)", 8 DXN4 "Cathode Input for Channel 4 Remote Diode. Connect the cathode of the channel 4 remote-diodeconnected transistor to DXN4.", 9 DXP5 "Combined Current Source and A/D Positive Input for Channel 5 Remote Diode. Connect to the anode of a remote-diode-connected temperature-sensing transistor. Leave floating or connect to VCC if no remote diode is used. Place a (See Datasheet)", 10 DXN5 "Cathode Input for Channel 5 Remote Diode. Connect the cathode of the channel 5 remote-diodeconnected transistor to DXN5.", 11 DXN6 "Cathode Input for Channel 6 Remote Diode. Connect the cathode of the channel 6 remote-diodeconnected transistor to DXN6.", 12 DXP6 "Combined Current Source and A/D Positive Input for Channel 6 Remote Diode. Connect to the anode of a remote-diode-connected temperature-sensing transistor. Leave floating or connect to VCC if no remote diode is used. Place a (See Datasheet)", 13 NC "No Connect. Must be connected to ground.", 14 NC "No Connect. Must be connected to ground.", 15 ~{OVERT} (oc) "Overtemperature Active-Low, Open-Drain Output. O\V\E\R\T\ asserts low when the temperature of channels 1, 4, 5, and 6 exceeds the programmed threshold limit.", 16 VCC (power) "Supply Voltage Input. Bypass to GND with a 0.1µF capacitor.", 17 ~{ALERT} (oc) "SMBus Alert (Interrupt), Active-Low, Open-Drain Output. A\L\E\R\T\ asserts low when the temperature of any channel exceeds the programmed A\L\E\R\T\ threshold.", 18 SMBDATA (io) "SMBus Serial-Data Input/Output. Connect to a pullup resistor.", 19 SMBCLK (in) "SMBus Serial-Clock Input. Connect to a pullup resistor.", 20 GND (power) "Ground"

## MAX6697EP99+T
designator U?
Seven-Channel Temperature Monitor, 11 Bits Temperature Resolution, -40 to 125 degC, 20-Pin SOP (E20+1), Pb-Free, Tape and Reel; Generic Part Number: MAX6697; PartNumber: MAX6697EP99+T; Alarm Output: Alert, Overt; Functions: Dual Temperature Alarms, Multi-Channel Temperature Monitor ,Remote & Local Sensor; Interface: 2-Wire/I2C/SMBus; Parasite Pwr.: No; DatasheetVersion: Rev. 3; PackageVersion: Rev. K, 04/2012; PackageReference: E20+1; PackageDescription: 20-Pin Quarter Small-Outline Package, Body 3.9 x 8.65 mm, Pitch 0.635 mm; Supplier 1: Digi-Key; Supplier Part Number 1: MAX6697EP99+T-ND; Supplier 2: Mouser; Supplier Part Number 2: 700-MAX6697EP99T; Packing: Tape and Reel; Mounting Technology: Surface Mount; Code_JEDEC: MO-137; ComponentLink1Description: Manufacturer URL; ComponentLink1URL: http://www.maximintegrated.com/; ComponentLink2Description: Datasheet; ComponentLink2URL: http://datasheets.maximintegrated.com/en/ds/MAX6697.pdf; ComponentLink3Description: Package Specification; ComponentLink3URL: http://pdfserv.maximintegrated.com/package_dwgs/21-0055.PDF
footprint MAXM-E20+1_N (SOP, 20-Leads, Body 8.65x3.9mm, Pitch 0.635mm, IPC Medium Density)
footprint MAXM-E20+1_L (SOP, 20-Leads, Body 8.65x3.9mm, Pitch 0.635mm, IPC High Density)
footprint MAXM-E20+1_M (SOP, 20-Leads, Body 8.65x3.9mm, Pitch 0.635mm, IPC Low Density)
pins: 1 DXP1 "Combined Current Source and A/D Positive Input for Channel 1 Remote Diode. Connect to the anode of a remote-diode-connected temperature-sensing transistor. Leave floating or connect to VCC if no remote diode is used. Place a (See Datasheet)", 2 DXN1 "Cathode Input for Channel 1 Remote Diode. Connect the cathode of the channel 1 remote-diodeconnected transistor to DXN1.", 3 DXP2 "Combined Current Source and A/D Positive Input for Channel 2 Remote Diode. Connect to the anode of a remote-diode-connected temperature-sensing transistor. Leave floating or connect to VCC if no remote diode is used. Place a (See Datasheet)", 4 DXN2 "Cathode Input for Channel 2 Remote Diode. Connect the cathode of the channel 2 remote-diodeconnected transistor to DXN2.", 5 DXP3 "Combined Current Source and A/D Positive Input for Channel 3 Remote Diode. Connect to the anode of a remote-diode-connected temperature-sensing transistor. Leave floating or connect to VCC if no remote diode is used. Place a (See Datasheet)", 6 DXN3 "Cathode Input for Channel 3 Remote Diode. Connect the cathode of the channel 3 remote-diodeconnected transistor to DXN3.", 7 DXP4 "Combined Current Source and A/D Positive Input for Channel 4 Remote Diode. Connect to the anode of a remote-diode-connected temperature-sensing transistor. Leave floating or connect to VCC if no remote diode is used. Place a (See Datasheet)", 8 DXN4 "Cathode Input for Channel 4 Remote Diode. Connect the cathode of the channel 4 remote-diodeconnected transistor to DXN4.", 9 DXP5 "Combined Current Source and A/D Positive Input for Channel 5 Remote Diode. Connect to the anode of a remote-diode-connected temperature-sensing transistor. Leave floating or connect to VCC if no remote diode is used. Place a (See Datasheet)", 10 DXN5 "Cathode Input for Channel 5 Remote Diode. Connect the cathode of the channel 5 remote-diodeconnected transistor to DXN5.", 11 DXN6 "Cathode Input for Channel 6 Remote Diode. Connect the cathode of the channel 6 remote-diodeconnected transistor to DXN6.", 12 DXP6 "Combined Current Source and A/D Positive Input for Channel 6 Remote Diode. Connect to the anode of a remote-diode-connected temperature-sensing transistor. Leave floating or connect to VCC if no remote diode is used. Place a (See Datasheet)", 13 NC "No Connect. Must be connected to ground.", 14 NC "No Connect. Must be connected to ground.", 15 ~{OVERT} (oc) "Overtemperature Active-Low, Open-Drain Output. O\V\E\R\T\ asserts low when the temperature of channels 1, 4, 5, and 6 exceeds the programmed threshold limit.", 16 VCC (power) "Supply Voltage Input. Bypass to GND with a 0.1µF capacitor.", 17 ~{ALERT} (oc) "SMBus Alert (Interrupt), Active-Low, Open-Drain Output. A\L\E\R\T\ asserts low when the temperature of any channel exceeds the programmed A\L\E\R\T\ threshold.", 18 SMBDATA (io) "SMBus Serial-Data Input/Output. Connect to a pullup resistor.", 19 SMBCLK (in) "SMBus Serial-Clock Input. Connect to a pullup resistor.", 20 GND (power) "Ground"

## MAX6697EP99-T
designator U?
Seven-Channel Temperature Monitor, 11 Bits Temperature Resolution, -40 to 125 degC, 20-Pin SOP (E20-1), Tape and Reel; Generic Part Number: MAX6697; PartNumber: MAX6697EP99-T; Alarm Output: Alert, Overt; Functions: Dual Temperature Alarms, Multi-Channel Temperature Monitor ,Remote & Local Sensor; Interface: 2-Wire/I2C/SMBus; Parasite Pwr.: No; DatasheetVersion: Rev. 3; PackageVersion: Rev. K, 04/2012; PackageReference: E20-1; PackageDescription: 20-Pin Quarter Small-Outline Package, Body 3.9 x 8.65 mm, Pitch 0.635 mm; Supplier 1: Mouser; Supplier Part Number 1: N/A; Packing: Tape and Reel; Mounting Technology: Surface Mount; Code_JEDEC: MO-137; ComponentLink1Description: Manufacturer URL; ComponentLink1URL: http://www.maximintegrated.com/; ComponentLink2Description: Datasheet; ComponentLink2URL: http://datasheets.maximintegrated.com/en/ds/MAX6697.pdf; ComponentLink3Description: Package Specification; ComponentLink3URL: http://pdfserv.maximintegrated.com/package_dwgs/21-0055.PDF
footprint MAXM-E20-1_N (SOP, 20-Leads, Body 8.65x3.9mm, Pitch 0.635mm, IPC Medium Density)
footprint MAXM-E20-1_L (SOP, 20-Leads, Body 8.65x3.9mm, Pitch 0.635mm, IPC High Density)
footprint MAXM-E20-1_M (SOP, 20-Leads, Body 8.65x3.9mm, Pitch 0.635mm, IPC Low Density)
pins: 1 DXP1 "Combined Current Source and A/D Positive Input for Channel 1 Remote Diode. Connect to the anode of a remote-diode-connected temperature-sensing transistor. Leave floating or connect to VCC if no remote diode is used. Place a (See Datasheet)", 2 DXN1 "Cathode Input for Channel 1 Remote Diode. Connect the cathode of the channel 1 remote-diodeconnected transistor to DXN1.", 3 DXP2 "Combined Current Source and A/D Positive Input for Channel 2 Remote Diode. Connect to the anode of a remote-diode-connected temperature-sensing transistor. Leave floating or connect to VCC if no remote diode is used. Place a (See Datasheet)", 4 DXN2 "Cathode Input for Channel 2 Remote Diode. Connect the cathode of the channel 2 remote-diodeconnected transistor to DXN2.", 5 DXP3 "Combined Current Source and A/D Positive Input for Channel 3 Remote Diode. Connect to the anode of a remote-diode-connected temperature-sensing transistor. Leave floating or connect to VCC if no remote diode is used. Place a (See Datasheet)", 6 DXN3 "Cathode Input for Channel 3 Remote Diode. Connect the cathode of the channel 3 remote-diodeconnected transistor to DXN3.", 7 DXP4 "Combined Current Source and A/D Positive Input for Channel 4 Remote Diode. Connect to the anode of a remote-diode-connected temperature-sensing transistor. Leave floating or connect to VCC if no remote diode is used. Place a (See Datasheet)", 8 DXN4 "Cathode Input for Channel 4 Remote Diode. Connect the cathode of the channel 4 remote-diodeconnected transistor to DXN4.", 9 DXP5 "Combined Current Source and A/D Positive Input for Channel 5 Remote Diode. Connect to the anode of a remote-diode-connected temperature-sensing transistor. Leave floating or connect to VCC if no remote diode is used. Place a (See Datasheet)", 10 DXN5 "Cathode Input for Channel 5 Remote Diode. Connect the cathode of the channel 5 remote-diodeconnected transistor to DXN5.", 11 DXN6 "Cathode Input for Channel 6 Remote Diode. Connect the cathode of the channel 6 remote-diodeconnected transistor to DXN6.", 12 DXP6 "Combined Current Source and A/D Positive Input for Channel 6 Remote Diode. Connect to the anode of a remote-diode-connected temperature-sensing transistor. Leave floating or connect to VCC if no remote diode is used. Place a (See Datasheet)", 13 NC "No Connect. Must be connected to ground.", 14 NC "No Connect. Must be connected to ground.", 15 ~{OVERT} (oc) "Overtemperature Active-Low, Open-Drain Output. O\V\E\R\T\ asserts low when the temperature of channels 1, 4, 5, and 6 exceeds the programmed threshold limit.", 16 VCC (power) "Supply Voltage Input. Bypass to GND with a 0.1µF capacitor.", 17 ~{ALERT} (oc) "SMBus Alert (Interrupt), Active-Low, Open-Drain Output. A\L\E\R\T\ asserts low when the temperature of any channel exceeds the programmed A\L\E\R\T\ threshold.", 18 SMBDATA (io) "SMBus Serial-Data Input/Output. Connect to a pullup resistor.", 19 SMBCLK (in) "SMBus Serial-Clock Input. Connect to a pullup resistor.", 20 GND (power) "Ground"